# Altium footprint library PcbLib1.PcbLib: 19 footprints (part 2 of 2)
Each footprint in its own frame and in the unit in brackets; x right, y up, seen from the top. Pads: shape width x height; smd on the part's side, far side on the other; paste and mask are expansions set on the pad; w line width, h text height; cw(c..) or ccw(c..) is an arc to the next point about the centre after c.
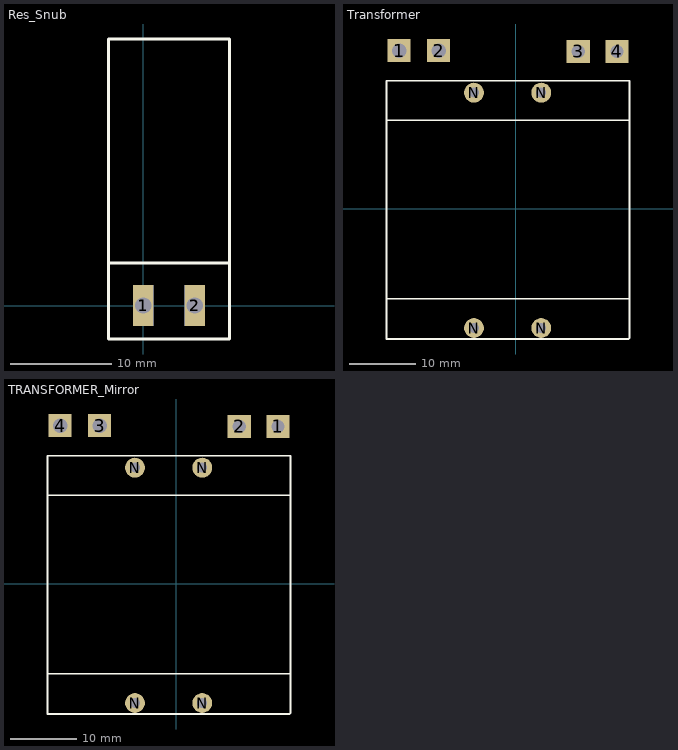
[diagram p1: the footprints below, top view; thin cyan lines are the x and y axes]

## Res_Snub [mm]
pads (6):
  rect 2x2 hole 1.6: 1(0,0) 2(5.08,0)
  rect 2x4 smd: 1(0,0) 2(5.08,0)
  rect 2x4 smd far side: 1(0,0) 2(5.08,0)
Top Overlay:
  lines w0.254: -3.429,4.191 8.509,4.191 ; -3.429,-3.302 -3.429,26.289 8.509,26.289 8.509,-3.302 -3.429,-3.302
3D body: height 5.03, standoff 0, extent -3.428,4.192 8.508,26.288

## Transformer [mm]
pads (8):
  rect 3.5x3.5 hole 2.2: 1(-17.653,23.876) 2(-11.684,23.876)
  rect 3.5x3.5 hole 2: 3(9.398,23.746) 4(15.24,23.746)
  round 3 hole 1.5: N(-6.35,-18.027) N(-6.35,17.519) N(3.81,-18.027) N(3.81,17.519)
Top Overlay:
  lines w0.254: -19.558,-13.589 17.018,-13.589 ; -19.558,13.335 17.145,13.335 ; -19.558,-19.685 17.018,-19.685 17.145,-19.558 17.145,19.304 -19.558,19.304 -19.558,-19.685
3D body: height 38.1, standoff 0, extent -19.685,-19.812 17.272,19.431

## TRANSFORMER_Mirror [mm]
pads (8):
  rect 3.5x3.5 hole 2: 1(15.367,23.746) 2(9.525,23.746)
  rect 3.5x3.5 hole 2.2: 3(-11.557,23.876) 4(-17.526,23.876)
  round 3 hole 1.5: N(-6.223,-18.027) N(-6.223,17.519) N(3.937,-18.027) N(3.937,17.519)
Top Overlay:
  lines w0.254: -19.431,-13.589 17.145,-13.589 ; -19.431,13.335 17.272,13.335 ; -19.431,-19.685 17.145,-19.685 17.272,-19.558 17.272,19.304 -19.431,19.304 -19.431,-19.685
3D body: height 38.1, standoff 0, extent -19.558,-19.812 17.399,19.431